# EAGLE library part EG2208A (library switch_slide)
E-SWITCH - EG2208A - SWITCH, SLIDE, DPDT, 200mA, 30V, PCB Source: Datasheet Check availability <https://pricing.snapeda.com/parts/EG2208A/E-Switch/view-part?ref=eda>
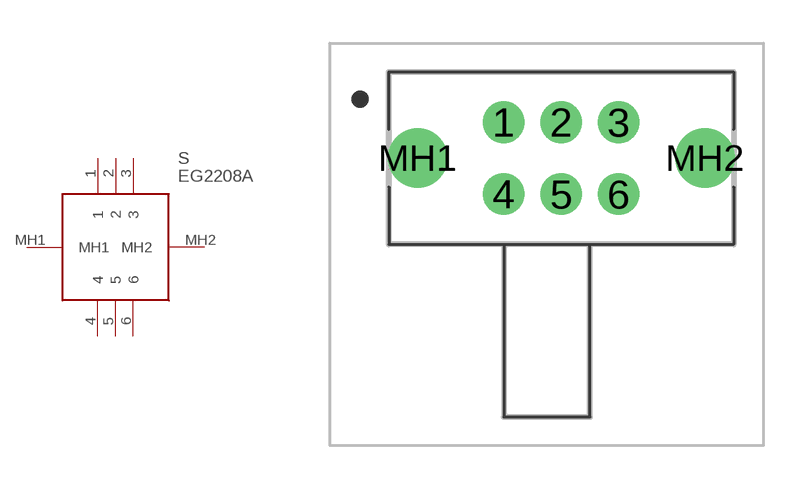
[diagram p0: symbol with the pads of EG2208A; footprint EG2208A]

Designator prefix S

## EG2208A (AVAILABILITY: In Stock; CHECK_PRICES: https://www.snapeda.com/parts/EG2208A/E-Switch/view-part/?ref=eda; DESCRIPTION: Slide Switch, EG Series, DPDT, ON-ON, 6mm Actuator, 200mA DC, 30VDC, R/A, PC | E-Switch EG2208A; MF: E-Switch; MP: EG2208A; PACKAGE: None; PRICE: None; PURCHASE-URL: https://www.snapeda.com/api/url_track_click_mouser/?unipart_id=422283&manufacturer=E-Switch&part_name=EG2208A&search_term=dpdt angle; SNAPEDA_LINK: https://www.snapeda.com/parts/EG2208A/E-Switch/view-part/?ref=snap)  [EG2208A]
1  1
2  2
3  3
4  4
5  5
6  6
MH1  MH1
MH2  MH2

## Footprint EG2208A (pad centres in mm)
EG2208A-1
drill 0.93 pad 1.447: 1 -2,1.25; 2 0,1.25; 3 2,1.25; 4 -2,-1.25; 5 0,-1.25; 6 2,-1.25
drill 1.38 pad 2.07: MH1 -5,0; MH2 5,0